# Altium footprint library RS2BE10GSMT.PcbLib: 1 footprints
Each footprint in its own frame and in the unit in brackets; x right, y up, seen from the top. Pads: shape width x height; smd on the part's side, far side on the other; paste and mask are expansions set on the pad; w line width, h text height; cw(c..) or ccw(c..) is an arc to the next point about the centre after c.
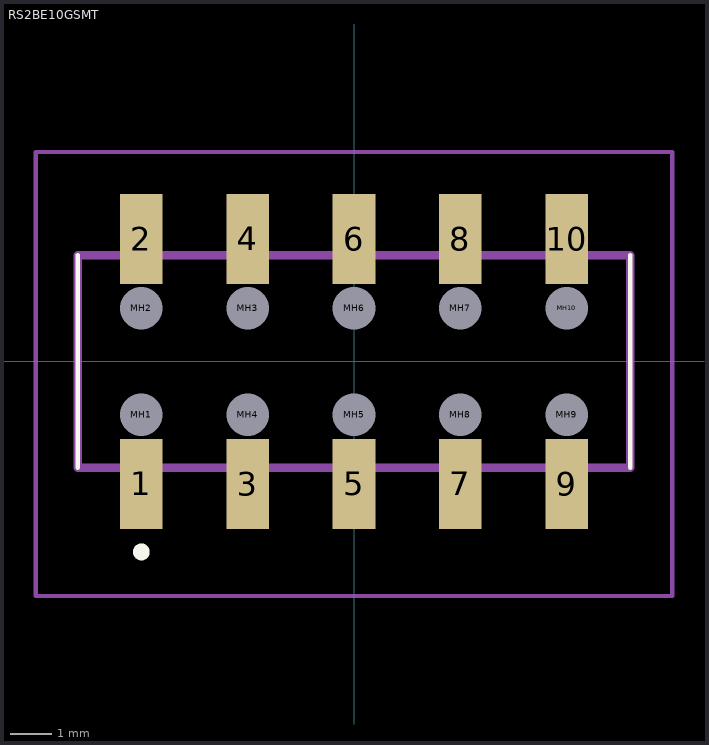
[diagram p0: the footprint, top view; thin cyan lines are the x and y axes]

## RS2BE10GSMT [mm]
pads (20):
  rect 1.02x2.15 smd: 1(-5.08,-2.925) 2(-5.08,2.925) 3(-2.54,-2.925) 4(-2.54,2.925) 5(0,-2.925) 6(0,2.925) 7(2.54,-2.925) 8(2.54,2.925) 9(5.08,-2.925) 10(5.08,2.925)
  round 0.51 hole 1.02 unplated: MH1(-5.08,-1.27) MH2(-5.08,1.27) MH3(-2.54,1.27) MH4(-2.54,-1.27) MH5(0,-1.27) MH6(0,1.27) MH7(2.54,1.27) MH8(2.54,-1.27) MH9(5.08,-1.27) MH10(5.08,1.27)
Top Overlay:
  lines w0.1: -6.6,-2.54 -6.6,2.54 ; 6.6,-2.54 6.6,2.54
  lines w0.3: -5.08,-4.6 ccw(c-5.08,-4.55) -5.08,-4.5 ccw(c-5.08,-4.55) -5.08,-4.6
Mechanical 15:
  lines w0.2: -6.6,-2.54 -6.6,2.54 6.6,2.54 6.6,-2.54 -6.6,-2.54
Mechanical 20:
  lines w0.1: -7.6,-5.6 -7.6,5 7.6,5 7.6,-5.6 -7.6,-5.6
3D body "RS2BE-10-G-SMT.stp": height 5.15, standoff -1.7, extent -6.6,-3.898 6.6,3.898